# Altium footprint library Connectors.PcbLib: 66 footprints (part 1 of 5)
Each footprint in its own frame and in the unit in brackets; x right, y up, seen from the top. Pads: shape width x height; smd on the part's side, far side on the other; paste and mask are expansions set on the pad; w line width, h text height; cw(c..) or ccw(c..) is an arc to the next point about the centre after c.
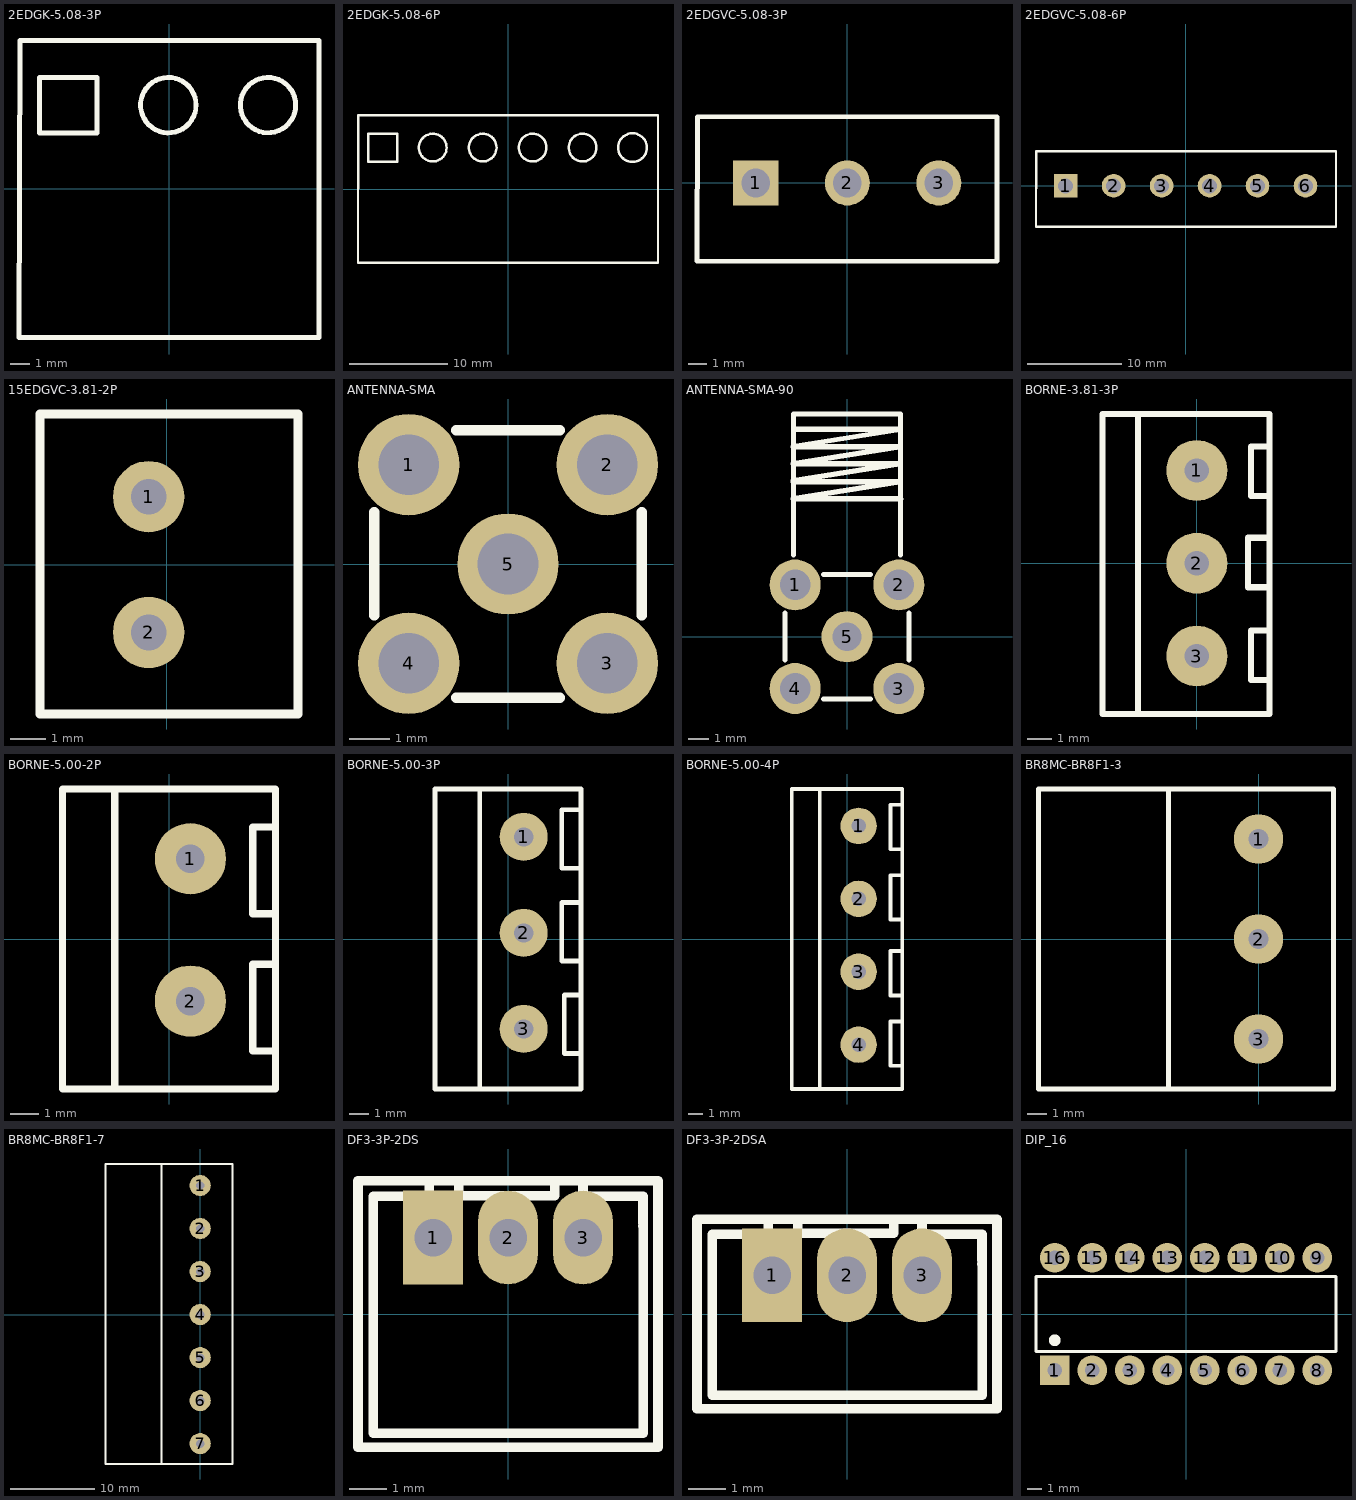
[diagram p0: the footprints below, top view; thin cyan lines are the x and y axes]

## 2EDGK-5.08-3P [mm]
Top Overlay:
  circle w0.254: c5.02,4.273 r1.409
  circle w0.254: c-0.06,4.273 r1.412
  lines w0.254: -3.688,5.651 -3.688,2.857 -6.609,2.857 -6.609,5.684 -3.688,5.684 ; -7.665,-7.557 7.615,-7.557 7.615,7.556 -7.615,7.556 -7.665,-7.557
3D body "2EDGK-5.08-3P.STEP": height 21.9, standoff 4.5, extent -7.625,-7.544 7.615,7.556

## 2EDGK-5.08-6P [mm]
Top Overlay:
  circle w0.254: c-7.68,4.21 r1.409
  circle w0.254: c-2.6,4.21 r1.409
  circle w0.254: c2.48,4.21 r1.41
  circle w0.254: c7.56,4.21 r1.41
  circle w0.254: c12.64,4.21 r1.461
  lines w0.254: -14.229,5.588 -14.229,2.794 -11.308,2.794 -11.308,5.588 ; -14.229,5.621 -11.308,5.621 ; -15.284,-7.493 -15.235,7.493 15.235,7.493 15.235,-7.493 -15.284,-7.493
3D body "2EDGK-5.08-6P.STEP": height 21.9, standoff 4.5, extent -15.245,-7.607 15.235,7.493

## 2EDGVC-5.08-3P [mm]
pads (3):
  rect 2.5x2.5 hole 1.6 paste-2539.97 mask+0.051: 1(-5.08,0)
  round 2.5 hole 1.6 paste-2539.97 mask+0.051: 2(0,0) 3(5.08,0)
Top Overlay:
  lines w0.254: -8.342,-4.337 -8.316,3.664 8.31,3.664 8.31,-4.337 -8.342,-4.337
3D body "2EDGVC-5.08-3P.STEP": height 12.2, standoff -3.9, extent -8.33,-4.464 8.31,3.736

## 2EDGVC-5.08-6P [mm]
pads (6):
  rect 2.5x2.5 hole 1.6 paste-2539.97 mask+0.051: 1(-12.7,0)
  round 2.5 hole 1.6 paste-2539.97 mask+0.051: 2(-7.62,0) 3(-2.54,0) 4(2.54,0) 5(7.62,0) 6(12.7,0)
Top Overlay:
  lines w0.254: -15.836,-4.337 -15.81,3.664 15.93,3.664 15.93,-4.337 -15.836,-4.337
3D body "2EDGVC-5.08-6P.STEP": height 12.2, standoff -3.9, extent -15.885,-4.409 15.995,3.791

## 15EDGVC-3.81-2P [mm]
pads (2):
  round 2 hole 1 paste-2539.97: 1(-0.508,1.905) 2(-0.508,-1.905)
Top Overlay:
  lines w0.254: -3.556,-4.191 3.683,-4.191 3.683,4.223 -3.556,4.223 -3.556,-4.191
3D body "15EDGVC-3.81-2P.STEP": height 9.2, standoff -3.4, extent -3.517,-4.205 3.683,4.205

## ANTENNA-SMA [mm]
pads (5):
  round 2.5 hole 1.5 paste-2539.97 mask+0.05: 1(-2.45,2.45) 2(2.45,2.45) 3(2.45,-2.45) 4(-2.45,-2.45) 5(0,0)
Top Overlay:
  lines w0.254: -3.302,-1.27 -3.302,1.28 ; -1.275,-3.302 1.275,-3.302 ; -1.275,3.302 1.275,3.302 ; 3.302,-1.27 3.302,1.28
3D body "ANTENNA-SMA.stp": height 12.86, standoff -3.94, extent -3.9,-4.487 3.9,4.487

## ANTENNA-SMA-90 [mm]
pads (5):
  round 2.5 hole 1.5 paste-2539.97 mask+0.051: 1(-2.54,2.54) 2(2.54,2.54) 3(2.54,-2.54) 4(-2.54,-2.54)
  round 2.5 hole 1.4 paste-2539.97 mask+0.051: 5(0,0)
Top Overlay:
  lines w0.254: -3.048,-1.149 -3.048,1.149 ; -2.652,7.601 2.598,7.601 -2.652,6.768 2.598,6.768 ; -2.652,7.651 2.598,8.484 -2.652,8.484 2.598,9.317 -2.652,9.317 ; -2.652,9.328 2.598,10.161 ; -2.625,4.019 -2.625,10.922 2.625,10.922 2.625,4.019 ; -2.625,10.178 2.625,10.178 ; -2.61,6.751 2.64,6.751 ; -1.149,-3.048 1.149,-3.048 ; -1.149,3.048 1.149,3.048 ; 3.048,-1.149 3.048,1.149
3D body "ANTENNA-SMA-90.STEP": height 10, standoff -3.8, extent -3.5,-3.5 3.5,11

## BORNE-3.81-3P [mm]
pads (3):
  round 2.5 hole 1 paste-2539.97: 1(0,3.81) 2(0,0) 3(0,-3.81)
Top Overlay:
  lines w0.254: -2.416,-6.102 -2.416,6.128 ; 2.856,-0.984 2.094,-0.984 2.094,-0.095 2.094,1.048 2.856,1.048 ; 2.983,-4.794 2.221,-4.794 2.221,-3.905 2.221,-2.762 2.983,-2.762 ; 2.983,2.762 2.221,2.762 2.221,3.651 2.221,4.794 2.983,4.794 ; -3.875,-6.191 2.983,-6.191 2.983,6.128 -3.875,6.128 -3.875,-6.191
3D body "BORNE-3.81-3P.STEP": height 8.4, standoff -3.6, extent -3.951,-6.214 3.049,6.176

## BORNE-5.00-2P [mm]
pads (2):
  round 2.5 hole 1: 1(0.754,2.82) 2(0.754,-2.18)
Top Overlay:
  lines w0.254: -1.905,-5.271 -1.905,5.271 ; -1.905,5.062 -1.905,5.271 ; 3.746,-3.937 2.939,-3.937 2.939,-2.413 2.939,-0.889 3.746,-0.889 ; 3.746,0.889 2.939,0.889 2.939,2.413 2.939,3.937 3.746,3.937 ; -1.905,5.271 3.746,5.271 3.746,-5.271 -3.746,-5.271 -3.746,5.271 -1.905,5.271
3D body "BORNE-5.00-2P.step": height 10.1, standoff -2.9, extent -3.864,-5.282 3.737,5.318

## BORNE-5.00-3P [mm]
pads (3):
  round 2.5 hole 1: 1(0.815,5.318) 2(0.815,0.318) 3(0.815,-4.683)
Top Overlay:
  lines w0.254: -1.471,-7.81 -1.471,7.81 ; 3.803,-5.969 2.928,-5.969 2.928,-4.445 2.928,-2.921 3.803,-2.921 ; 3.803,-1.143 2.801,-1.143 2.801,0.381 2.801,1.905 3.803,1.905 ; 3.803,3.683 2.801,3.683 2.801,5.207 2.801,6.731 3.803,6.731 ; -3.803,-7.81 -3.803,7.81 3.803,7.81 3.803,-7.81 -3.803,-7.81
3D body "BORNE-5.00-3P.step": height 10.1, standoff -2.9, extent -3.797,-7.786 3.803,7.813

## BORNE-5.00-4P [mm]
pads (4):
  round 2.5 hole 1: 1(0.798,7.754) 2(0.798,2.754) 3(0.798,-2.246) 4(0.798,-7.246)
Top Overlay:
  lines w0.254: -1.861,-10.287 -1.861,10.287 ; 0.028,-2.588 0.108,-2.667 ; 3.791,-8.7 2.983,-8.7 2.983,-7.175 2.983,-5.651 3.791,-5.651 ; 3.791,-3.873 2.983,-3.873 2.983,-2.349 2.983,-0.826 3.791,-0.826 ; 3.791,1.333 2.983,1.333 2.983,2.857 2.983,4.381 3.791,4.381 ; 3.791,6.159 2.983,6.159 2.983,7.683 2.983,9.207 3.791,9.207 ; -3.791,-10.287 -3.791,10.287 3.791,10.287 3.791,-10.287 -3.791,-10.287
3D body "BORNE-5.00-2P.step": height 10, standoff -3, extent -3.8,-0.266 3.8,10.334
3D body "BORNE-5.00-2P.step": height 10, standoff -3, extent -3.8,-10.299 3.8,0.301

## BR8MC-BR8F1-3 [mm]
pads (3):
  round 2.5 hole 1: 1(0,5.08) 2(0,0) 3(0,-5.08)
Top Overlay:
  lines w0.254: -4.572,-7.62 3.81,-7.62 3.81,7.62 -4.572,7.62 ; -4.572,-7.62 -4.572,7.62 ; -4.572,-7.62 -11.176,-7.62 -11.176,7.62 -4.572,7.62
3D body "BR8F1-03.SLDPRT": height 20, standoff 1.9, extent -11.176,-7.62 3.874,7.62
3D body "BR8MC1-03.SLDPRT": height 12.1, standoff -3.93, extent -4.572,-7.62 3.928,7.62

## BR8MC-BR8F1-7 [mm]
pads (7):
  round 2.5 hole 1: 1(0,15.24) 2(0,10.16) 3(0,5.08) 4(0,0) 5(0,-5.08) 6(0,-10.16) 7(0,-15.24)
Top Overlay:
  lines w0.254: -4.572,-17.653 -4.572,17.78 ; -4.572,-17.653 3.81,-17.653 3.81,17.78 -4.572,17.78 ; -4.572,-17.653 -11.176,-17.653 -11.176,17.78 -4.572,17.78
3D body "BR8MC1-07.SLDPRT": height 12.1, standoff -3.93, extent -4.572,-17.78 3.928,17.78
3D body "BR8F1-07.SLDPRT": height 20, standoff 1.9, extent -11.176,-17.653 3.874,17.907

## DF3-3P-2DS [mm]
pads (3):
  rect 1.6x2.5 hole 1: 1(-2,2.038)
  oval 1.6x2.5 hole 1: 2(0,2.038) 3(2,2.038)
Top Overlay:
  lines w0.254: -2.1,3.539 -2.1,3.138 -3.599,3.138 -3.599,-3.175 3.601,-3.175 3.601,2.436 3.6,2.338 ; -1.313,3.538 -1.313,3.158 1.25,3.158 1.25,3.538 ; 2,3.539 2,3.139 3.6,3.139 3.6,2.438 ; -4,-3.556 4,-3.556 4,3.556 -4,3.556 -4,-3.556
3D body "DF3-3P-2DS.STEP": height 5.03, standoff -2.87, extent -3.924,-3.644 4.076,3.556

## DF3-3P-2DSA [mm]
pads (3):
  rect 1.6x2.5 hole 1: 1(-2,1.031)
  oval 1.6x2.5 hole 1: 2(0,1.031) 3(2,1.031)
Top Overlay:
  lines w0.254: -2.1,2.532 -2.1,2.131 -3.599,2.131 -3.599,-2.17 3.6,-2.169 3.601,1.43 3.6,1.331 ; -1.313,2.531 -1.313,2.151 1.25,2.151 1.25,2.531 ; 2,2.532 2,2.132 3.6,2.132 3.6,1.431 ; -4,-2.531 4,-2.531 4,2.531 -4,2.531 -4,-2.531
3D body "DF3-3P-2DSA.stp": height 5.03, standoff -2.87, extent -3.924,-2.578 4.076,2.422

## DIP_16 [mm]
pads (16):
  rect 2x2 hole 1: 1(-8.89,-3.81)
  round 2 hole 1: 2(-6.35,-3.81) 3(-3.81,-3.81) 4(-1.27,-3.81) 5(1.27,-3.81) 6(3.81,-3.81) 7(6.35,-3.81) 8(8.89,-3.81) 9(8.89,3.81) 10(6.35,3.81) 11(3.81,3.81) 12(1.27,3.81) 13(-1.27,3.81) 14(-3.81,3.81) 15(-6.35,3.81) 16(-8.89,3.81)
Top Overlay:
  circle w0.4: c-8.89,-1.778 r0.2
  lines w0.229: -10.16,-2.54 -10.16,2.54 10.16,2.54 10.16,-2.54 -10.16,-2.54
3D body "dip16.stp": height 5.19, standoff -3.06, extent -10.147,-5.016 10.173,5.143